# EAGLE library part SN74LVC1G332 (library 74LV)
OR GATE 3-INPUT
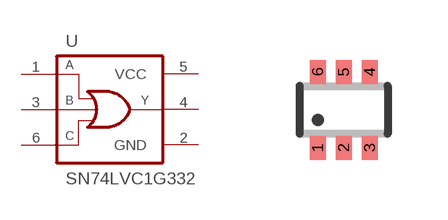
[diagram p13: symbol with the pads of SC70-6; footprint SC70-6]

Designator prefix U

## SN74LVC1G332  [SC70-6]
1  A  in
2  GND  pwr
3  B  in
4  Y  out
5  VCC  pwr
6  C  in

## Footprint SC70-6 (pad centres in mm)
SC70 - DCK 0.65 mm pitch
smd 0.4 x 0.6: 1 -0.65,-0.95; 2 0,-0.95; 3 0.65,-0.95; 4 0.65,0.95; 5 0,0.95; 6 -0.65,0.95